# Altium footprint library CONNECTOR.PCBLIB: 232 footprints (part 13 of 15)
Each footprint in its own frame and in the unit in brackets; x right, y up, seen from the top. Pads: shape width x height; smd on the part's side, far side on the other; paste and mask are expansions set on the pad; w line width, h text height; cw(c..) or ccw(c..) is an arc to the next point about the centre after c.
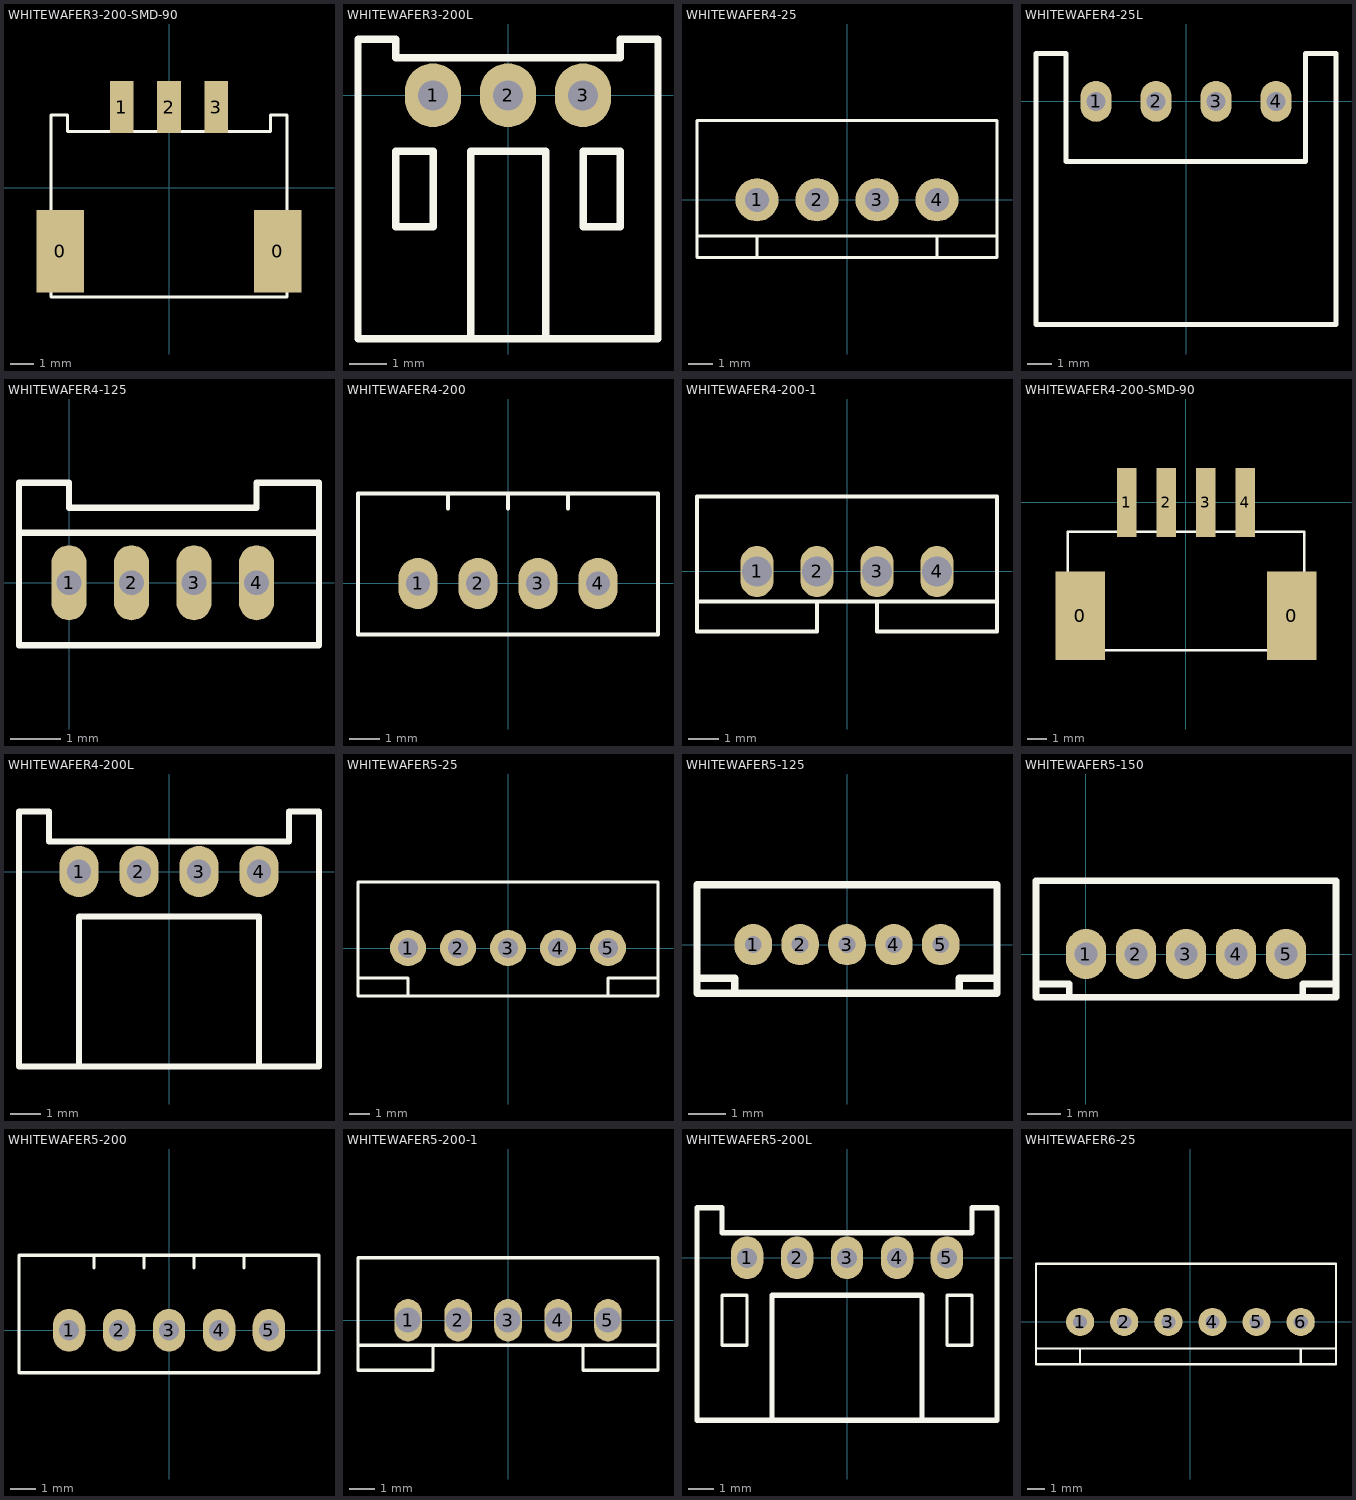
[diagram p12: the footprints below, top view; thin cyan lines are the x and y axes]

## WHITEWAFER3-200-SMD-90 [mm] "WHITEWAFER3-200-SMD-90"
pads (5):
  rect 2x3.5 smd: 0(-4.6,-2.7) 0(4.6,-2.7)
  rect 1x2.2 smd: 1(-2,3.4) 2(0,3.4) 3(2,3.4)
TopOverlay:
  lines w0.127: -5,-4.625 5,-4.625 5,2.375 5,3.075 4.3,3.075 4.3,2.375 -4.3,2.375 -4.3,3.075 -5,3.075 -5,2.375 -5,-4.625

## WHITEWAFER3-200L [mm]
pads (3):
  oval 1.5x1.7 hole 0.8: 1(-2,0) 2(0,0) 3(2,0)
TopOverlay:
  lines w0.2: -4,-6.5 4,-6.5 4,1.5 3,1.5 3,1 -3,1 -3,1.5 -4,1.5 -4,-6.477 ; -1,-6.5 -1,-1.5 1,-1.5 1,-6.5 ; -3,-3.5 -3,-1.5 -2,-1.5 -2,-3.5 -3,-3.5 ; 2,-3.5 2,-1.5 3,-1.5 3,-3.5 2,-3.5

## WHITEWAFER4-25 [mm]
pads (4):
  round 1.8 hole 1: 1(-3.75,0) 2(-1.25,0) 3(1.25,0) 4(3.75,0)
TopOverlay:
  lines w0.127: -6.25,-1.5 -3.75,-1.5 ; -3.75,-2.4 -3.75,-1.5 ; 3.75,-2.397 3.75,-1.5 ; 6.25,-1.5 3.75,-1.5 ; -3.75,-1.5 3.75,-1.5 ; -6.25,-2.4 -6.25,3.3 6.25,3.3 6.25,-2.4 -6.25,-2.4

## WHITEWAFER4-25L [mm]
pads (4):
  oval 1.3x1.7 hole 0.8: 1(-3.75,0) 2(-1.25,0) 3(1.25,0) 4(3.75,0)
TopOverlay:
  lines w0.203: -6.25,-9.3 -6.25,0 -6.25,2 -5,2 -5,-2.5 4.975,-2.5 4.975,2 6.25,2 6.25,-9.3 -6.25,-9.3

## WHITEWAFER4-125 [mm]
pads (4):
  oval 0.7x1.5 hole 0.5: 1(0,0) 2(1.25,0) 3(2.5,0) 4(3.75,0)
TopOverlay:
  lines w0.127: -1,1 5,1 ; -1,-1.25 5,-1.25 5,2 3.75,2 3.75,1.5 0,1.5 0,2 -1,2 -1,0 -1,-1.25

## WHITEWAFER4-200 [mm]
pads (4):
  oval 1.3x1.7 hole 0.8: 1(-3,0) 2(-1,0) 3(1,0) 4(3,0)
TopOverlay:
  lines w0.127: -2,2.5 -2,3 ; 0,2.5 0,3 ; 2,2.5 2,3 ; -5,-1.7 -5,3 5,3 5,-1.7 -5,-1.7

## WHITEWAFER4-200-1 [mm]
pads (4):
  oval 1.1x1.7 hole 1: 1(-3,0) 2(-1,0) 3(1,0) 4(3,0)
TopOverlay:
  lines w0.127: -5,-1 -2,-1 4,-1 5,-1 ; -1,-1 -1,-2 -5,-2 -5,2.5 5,2.5 5,-2 1,-2 1,-1

## WHITEWAFER4-200-SMD-90 [mm]
pads (6):
  rect 2.5x4.5 smd: 0(-5.35,-5.75) 0(5.35,-5.75)
  rect 1x3.5 smd: 1(-3,0) 2(-1,0) 3(1,0) 4(3,0)
TopOverlay:
  lines w0.127: -6,-7.5 6,-7.5 6,-1.5 -6,-1.5 -6,-7.5

## WHITEWAFER4-200L [mm]
pads (4):
  oval 1.3x1.7 hole 0.8: 1(-3,0) 2(-1,0) 3(1,0) 4(3,0)
TopOverlay:
  lines w0.203: -3,-6.5 -3,-1.5 3,-1.5 3,-6.5 ; -5,-6.5 5,-6.5 5,2 4,2 4,1 -4,1 -4,2 -5,2 -5,0 -5,-6.5

## WHITEWAFER5-25 [mm]
pads (5):
  round 1.8 hole 1: 1(-5,0) 2(-2.5,0) 3(0,0) 4(2.5,0) 5(5,0)
TopOverlay:
  lines w0.127: -7.5,-1.5 -5,-1.5 -5,-2.4 ; 5,-2.397 5,-1.5 7.5,-1.5 ; -7.5,-2.4 -7.5,3.3 7.5,3.3 7.5,-2.4 -7.5,-2.4

## WHITEWAFER5-125 [mm] "WHITEWAFER5-125"
pads (5):
  oval 1x1.1 hole 0.45: 1(-2.5,0) 2(-1.25,0) 3(0,0) 4(1.25,0) 5(2.5,0)
TopOverlay:
  lines w0.2: -4,-0.9 -3,-0.9 -3,-1.3 ; 3,-1.3 3,-0.9 4,-0.9 ; -4,-1.3 -4,1.6 4,1.6 4,-1.3 -4,-1.3

## WHITEWAFER5-150 [mm]
pads (5):
  oval 1.2x1.5 hole 0.7: 1(0,0) 2(1.5,0) 3(3,0) 4(4.5,0) 5(6,0)
TopOverlay:
  lines w0.2: -1.5,-0.9 -0.5,-0.9 -0.5,-1.3 ; 6.5,-1.3 6.5,-0.9 7.5,-0.9 ; -1.5,-1.3 -1.5,2.2 7.5,2.2 7.5,-1.3 -1.5,-1.3

## WHITEWAFER5-200 [mm]
pads (5):
  oval 1.3x1.7 hole 0.8: 1(-4,0) 2(-2,0) 3(0,0) 4(2,0) 5(4,0)
TopOverlay:
  lines w0.127: -3,2.5 -3,3 ; -1,2.5 -1,3 ; 1,2.5 1,3 ; 3,2.5 3,3 ; -6,-1.7 -6,3 6,3 6,-1.7 -6,-1.7

## WHITEWAFER5-200-1 [mm]
pads (5):
  oval 1.1x1.7 hole 1: 1(-4,0) 2(-2,0) 3(0,0) 4(2,0) 5(4,0)
TopOverlay:
  lines w0.127: -6,-1 -3,-1 ; 5.975,-1 3,-1 ; -3,-1 -3,-2 -6,-2 -6,2.5 6,2.5 6,-2 3,-2 3,-1 ; -3,-1 3,-1

## WHITEWAFER5-200L [mm]
pads (5):
  oval 1.3x1.7 hole 0.8: 1(-4,0) 2(-2,0) 3(0,0) 4(2,0) 5(4,0)
TopOverlay:
  lines w0.127: -5,-3.5 -5,-1.5 -4,-1.5 -4,-3.5 -5,-3.5 ; 4,-3.5 4,-1.5 5,-1.5 5,-3.5 4,-3.5
  lines w0.203: -3,-6.5 -3,-1.5 3,-1.5 3,-6.5 ; -6,-6.5 6,-6.5 6,2 5,2 5,1 -5,1 -5,2 -6,2 -6,0 -6,-6.5

## WHITEWAFER6-25 [mm] "WHITEWAFER6-25"
pads (6):
  round 1.6 hole 0.8: 1(-6.25,0) 2(-3.75,0) 3(-1.25,0) 4(1.25,0) 5(3.75,0) 6(6.25,0)
TopOverlay:
  lines w0.127: -8.75,-1.5 -6.25,-1.5 ; -6.25,-2.4 -6.25,-1.5 ; 6.25,-2.397 6.25,-1.5 ; 8.25,-1.5 6.25,-1.5 ; -6.25,-1.5 6.25,-1.5 ; -8.75,-2.4 8.25,-2.4 8.25,3.3 -8.75,3.3 -8.75,-2.4